# Altium schematic symbol library Ferrite_Bead.SchLib: 1 symbol
Pins are listed as number, name and electrical type; pins without a type are passive.

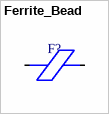
[diagram p0: symbol Ferrite_Bead]

## Ferrite_Bead
designator F?
pins: 1, 2